# Altium footprint library Connector_Hirose_DF40.PcbLib: 70 footprints (part 3 of 5)
Each footprint in its own frame and in the unit in brackets; x right, y up, seen from the top. Pads: shape width x height; smd on the part's side, far side on the other; paste and mask are expansions set on the pad; w line width, h text height; cw(c..) or ccw(c..) is an arc to the next point about the centre after c.
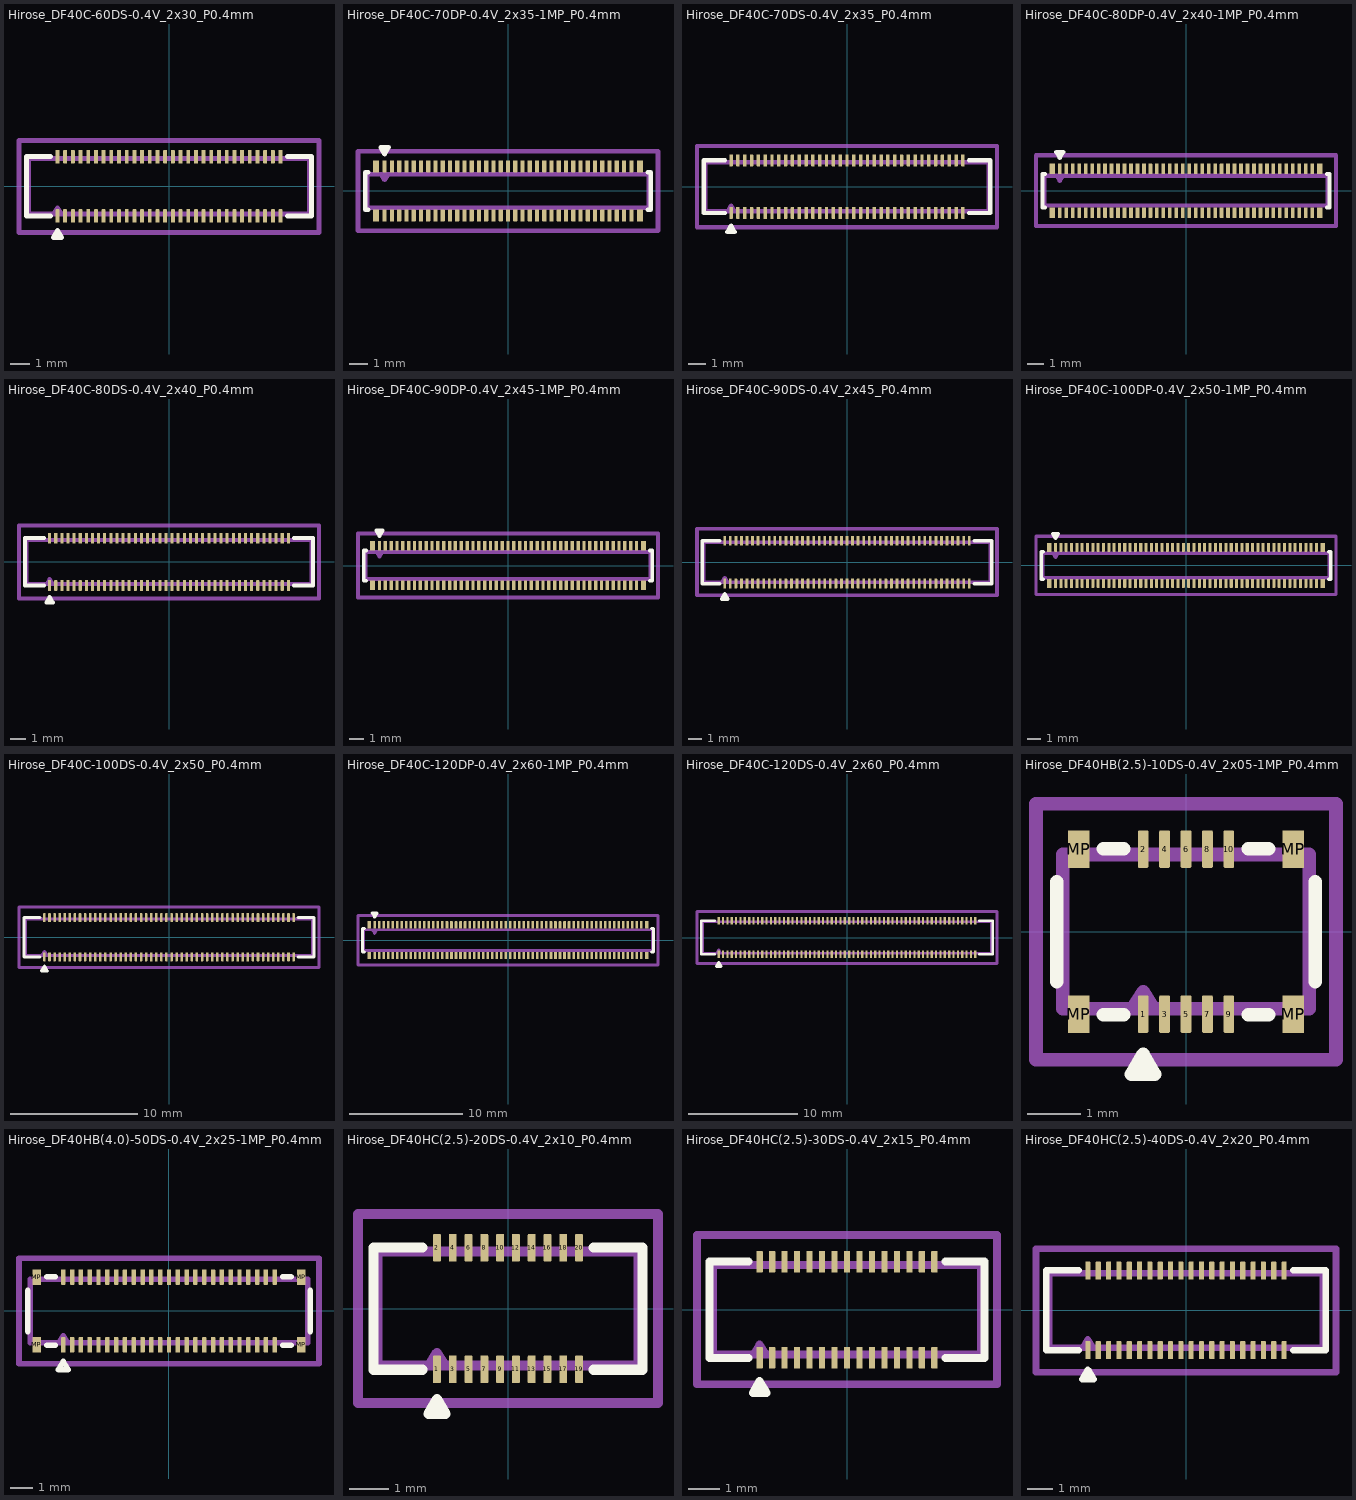
[diagram p2: the footprints below, top view; thin cyan lines are the x and y axes]

## Hirose_DF40C-60DS-0.4V_2x30_P0.4mm [mm]
pads (60):
  rrect25% 0.2x0.7 smd: 1(-5.8,-1.54) 2(-5.8,1.54) 3(-5.4,-1.54) 4(-5.4,1.54) 5(-5,-1.54) 6(-5,1.54) 7(-4.6,-1.54) 8(-4.6,1.54) 9(-4.2,-1.54) 10(-4.2,1.54) 11(-3.8,-1.54) 12(-3.8,1.54) 13(-3.4,-1.54) 14(-3.4,1.54) 15(-3,-1.54) 16(-3,1.54) 17(-2.6,-1.54) 18(-2.6,1.54) 19(-2.2,-1.54) 20(-2.2,1.54) 21(-1.8,-1.54) 22(-1.8,1.54) 23(-1.4,-1.54) 24(-1.4,1.54) 25(-1,-1.54) 26(-1,1.54) 27(-0.6,-1.54) 28(-0.6,1.54) 29(-0.2,-1.54) 30(-0.2,1.54) 31(0.2,-1.54) 32(0.2,1.54) 33(0.6,-1.54) 34(0.6,1.54) 35(1,-1.54) 36(1,1.54) 37(1.4,-1.54) 38(1.4,1.54) 39(1.8,-1.54) 40(1.8,1.54) 41(2.2,-1.54) 42(2.2,1.54) 43(2.6,-1.54) 44(2.6,1.54) 45(3,-1.54) 46(3,1.54) 47(3.4,-1.54) 48(3.4,1.54) 49(3.8,-1.54) 50(3.8,1.54) 51(4.2,-1.54) 52(4.2,1.54) 53(4.6,-1.54) 54(4.6,1.54) 55(5,-1.54) 56(5,1.54) 57(5.4,-1.54) 58(5.4,1.54) 59(5.8,-1.54) 60(5.8,1.54)
F.SilkS:
  lines w0.254: -6.16,-1.55 -7.41,-1.55 -7.41,1.55 -6.16,1.55 ; 6.16,-1.55 7.41,-1.55 7.41,1.55 6.16,1.55 ; -6.017,-2.665 -5.583,-2.665 -5.8,-2.29 -6.017,-2.665
Top Assembly:
  lines w0.254: -6,-1.44 -5.8,-1.12 -5.6,-1.44 ; -7.3,-1.44 7.3,-1.44 7.3,1.44 -7.3,1.44 -7.3,-1.44
  text "'.Designator'" at -4.047,-0.84 h1
Top Courtyard:
  lines w0.254: -7.8,-2.39 7.8,-2.39 7.8,2.39 -7.8,2.39 -7.8,-2.39
Top Designator:
  text ".Designator" at -7.618,-0.645 h1.52

## Hirose_DF40C-70DP-0.4V_2x35-1MP_P0.4mm [mm]
pads (74):
  rrect25% 0.23x0.66 smd: 1(-6.8,1.355) 2(-6.8,-1.355) 3(-6.4,1.355) 4(-6.4,-1.355) 5(-6,1.355) 6(-6,-1.355) 7(-5.6,1.355) 8(-5.6,-1.355) 9(-5.2,1.355) 10(-5.2,-1.355) 11(-4.8,1.355) 12(-4.8,-1.355) 13(-4.4,1.355) 14(-4.4,-1.355) 15(-4,1.355) 16(-4,-1.355) 17(-3.6,1.355) 18(-3.6,-1.355) 19(-3.2,1.355) 20(-3.2,-1.355) 21(-2.8,1.355) 22(-2.8,-1.355) 23(-2.4,1.355) 24(-2.4,-1.355) 25(-2,1.355) 26(-2,-1.355) 27(-1.6,1.355) 28(-1.6,-1.355) 29(-1.2,1.355) 30(-1.2,-1.355) 31(-0.8,1.355) 32(-0.8,-1.355) 33(-0.4,1.355) 34(-0.4,-1.355) 35(0,1.355) 36(0,-1.355) 37(0.4,1.355) 38(0.4,-1.355) 39(0.8,1.355) 40(0.8,-1.355) 41(1.2,1.355) 42(1.2,-1.355) 43(1.6,1.355) 44(1.6,-1.355) 45(2,1.355) 46(2,-1.355) 47(2.4,1.355) 48(2.4,-1.355) 49(2.8,1.355) 50(2.8,-1.355) 51(3.2,1.355) 52(3.2,-1.355) 53(3.6,1.355) 54(3.6,-1.355) 55(4,1.355) 56(4,-1.355) 57(4.4,1.355) 58(4.4,-1.355) 59(4.8,1.355) 60(4.8,-1.355) 61(5.2,1.355) 62(5.2,-1.355) 63(5.6,1.355) 64(5.6,-1.355) 65(6,1.355) 66(6,-1.355) 67(6.4,1.355) 68(6.4,-1.355) 69(6.8,1.355) 70(6.8,-1.355)
  rect 0.35x0.66 smd: MP(-7.275,-1.355) MP(-7.275,1.355) MP(7.275,-1.355) MP(7.275,1.355)
F.SilkS:
  lines w0.254: -7.71,-1.035 -7.87,-1.035 -7.87,1.035 -7.71,1.035 ; 7.71,-1.035 7.87,-1.035 7.87,1.035 7.71,1.035 ; -7.017,2.4 -6.583,2.4 -6.8,2.025 -7.017,2.4
Top Assembly:
  lines w0.254: -7,0.925 -6.8,0.605 -6.6,0.925 ; -7.76,-0.925 7.76,-0.925 7.76,0.925 -7.76,0.925 -7.76,-0.925
  text "'.Designator'" at -4.047,-0.84 h1
Top Courtyard:
  lines w0.254: -8.27,-2.19 8.27,-2.19 8.27,2.19 -8.27,2.19 -8.27,-2.19
Top Designator:
  text ".Designator" at -7.618,-0.403 h1.52

## Hirose_DF40C-70DS-0.4V_2x35_P0.4mm [mm]
pads (70):
  rrect25% 0.2x0.7 smd: 1(-6.8,-1.54) 2(-6.8,1.54) 3(-6.4,-1.54) 4(-6.4,1.54) 5(-6,-1.54) 6(-6,1.54) 7(-5.6,-1.54) 8(-5.6,1.54) 9(-5.2,-1.54) 10(-5.2,1.54) 11(-4.8,-1.54) 12(-4.8,1.54) 13(-4.4,-1.54) 14(-4.4,1.54) 15(-4,-1.54) 16(-4,1.54) 17(-3.6,-1.54) 18(-3.6,1.54) 19(-3.2,-1.54) 20(-3.2,1.54) 21(-2.8,-1.54) 22(-2.8,1.54) 23(-2.4,-1.54) 24(-2.4,1.54) 25(-2,-1.54) 26(-2,1.54) 27(-1.6,-1.54) 28(-1.6,1.54) 29(-1.2,-1.54) 30(-1.2,1.54) 31(-0.8,-1.54) 32(-0.8,1.54) 33(-0.4,-1.54) 34(-0.4,1.54) 35(0,-1.54) 36(0,1.54) 37(0.4,-1.54) 38(0.4,1.54) 39(0.8,-1.54) 40(0.8,1.54) 41(1.2,-1.54) 42(1.2,1.54) 43(1.6,-1.54) 44(1.6,1.54) 45(2,-1.54) 46(2,1.54) 47(2.4,-1.54) 48(2.4,1.54) 49(2.8,-1.54) 50(2.8,1.54) 51(3.2,-1.54) 52(3.2,1.54) 53(3.6,-1.54) 54(3.6,1.54) 55(4,-1.54) 56(4,1.54) 57(4.4,-1.54) 58(4.4,1.54) 59(4.8,-1.54) 60(4.8,1.54) 61(5.2,-1.54) 62(5.2,1.54) 63(5.6,-1.54) 64(5.6,1.54) 65(6,-1.54) 66(6,1.54) 67(6.4,-1.54) 68(6.4,1.54) 69(6.8,-1.54) 70(6.8,1.54)
F.SilkS:
  lines w0.254: -7.16,-1.55 -8.41,-1.55 -8.41,1.55 -7.16,1.55 ; 7.16,-1.55 8.41,-1.55 8.41,1.55 7.16,1.55 ; -7.017,-2.665 -6.583,-2.665 -6.8,-2.29 -7.017,-2.665
Top Assembly:
  lines w0.254: -7,-1.44 -6.8,-1.12 -6.6,-1.44 ; -8.3,-1.44 8.3,-1.44 8.3,1.44 -8.3,1.44 -8.3,-1.44
  text "'.Designator'" at -4.047,-0.84 h1
Top Courtyard:
  lines w0.254: -8.8,-2.39 8.8,-2.39 8.8,2.39 -8.8,2.39 -8.8,-2.39
Top Designator:
  text ".Designator" at -7.618,-0.645 h1.52

## Hirose_DF40C-80DP-0.4V_2x40-1MP_P0.4mm [mm]
pads (84):
  rrect25% 0.23x0.66 smd: 1(-7.8,1.355) 2(-7.8,-1.355) 3(-7.4,1.355) 4(-7.4,-1.355) 5(-7,1.355) 6(-7,-1.355) 7(-6.6,1.355) 8(-6.6,-1.355) 9(-6.2,1.355) 10(-6.2,-1.355) 11(-5.8,1.355) 12(-5.8,-1.355) 13(-5.4,1.355) 14(-5.4,-1.355) 15(-5,1.355) 16(-5,-1.355) 17(-4.6,1.355) 18(-4.6,-1.355) 19(-4.2,1.355) 20(-4.2,-1.355) 21(-3.8,1.355) 22(-3.8,-1.355) 23(-3.4,1.355) 24(-3.4,-1.355) 25(-3,1.355) 26(-3,-1.355) 27(-2.6,1.355) 28(-2.6,-1.355) 29(-2.2,1.355) 30(-2.2,-1.355) 31(-1.8,1.355) 32(-1.8,-1.355) 33(-1.4,1.355) 34(-1.4,-1.355) 35(-1,1.355) 36(-1,-1.355) 37(-0.6,1.355) 38(-0.6,-1.355) 39(-0.2,1.355) 40(-0.2,-1.355) 41(0.2,1.355) 42(0.2,-1.355) 43(0.6,1.355) 44(0.6,-1.355) 45(1,1.355) 46(1,-1.355) 47(1.4,1.355) 48(1.4,-1.355) 49(1.8,1.355) 50(1.8,-1.355) 51(2.2,1.355) 52(2.2,-1.355) 53(2.6,1.355) 54(2.6,-1.355) 55(3,1.355) 56(3,-1.355) 57(3.4,1.355) 58(3.4,-1.355) 59(3.8,1.355) 60(3.8,-1.355) 61(4.2,1.355) 62(4.2,-1.355) 63(4.6,1.355) 64(4.6,-1.355) 65(5,1.355) 66(5,-1.355) 67(5.4,1.355) 68(5.4,-1.355) 69(5.8,1.355) 70(5.8,-1.355) 71(6.2,1.355) 72(6.2,-1.355) 73(6.6,1.355) 74(6.6,-1.355) 75(7,1.355) 76(7,-1.355) 77(7.4,1.355) 78(7.4,-1.355) 79(7.8,1.355) 80(7.8,-1.355)
  rect 0.35x0.66 smd: MP(-8.275,-1.355) MP(-8.275,1.355) MP(8.275,-1.355) MP(8.275,1.355)
F.SilkS:
  lines w0.254: -8.71,-1.035 -8.87,-1.035 -8.87,1.035 -8.71,1.035 ; 8.71,-1.035 8.87,-1.035 8.87,1.035 8.71,1.035 ; -8.017,2.4 -7.583,2.4 -7.8,2.025 -8.017,2.4
Top Assembly:
  lines w0.254: -8,0.925 -7.8,0.605 -7.6,0.925 ; -8.76,-0.925 8.76,-0.925 8.76,0.925 -8.76,0.925 -8.76,-0.925
  text "'.Designator'" at -4.047,-0.84 h1
Top Courtyard:
  lines w0.254: -9.27,-2.19 9.27,-2.19 9.27,2.19 -9.27,2.19 -9.27,-2.19
Top Designator:
  text ".Designator" at -7.618,-0.403 h1.52

## Hirose_DF40C-80DS-0.4V_2x40_P0.4mm [mm]
pads (80):
  rrect25% 0.2x0.7 smd: 1(-7.8,-1.54) 2(-7.8,1.54) 3(-7.4,-1.54) 4(-7.4,1.54) 5(-7,-1.54) 6(-7,1.54) 7(-6.6,-1.54) 8(-6.6,1.54) 9(-6.2,-1.54) 10(-6.2,1.54) 11(-5.8,-1.54) 12(-5.8,1.54) 13(-5.4,-1.54) 14(-5.4,1.54) 15(-5,-1.54) 16(-5,1.54) 17(-4.6,-1.54) 18(-4.6,1.54) 19(-4.2,-1.54) 20(-4.2,1.54) 21(-3.8,-1.54) 22(-3.8,1.54) 23(-3.4,-1.54) 24(-3.4,1.54) 25(-3,-1.54) 26(-3,1.54) 27(-2.6,-1.54) 28(-2.6,1.54) 29(-2.2,-1.54) 30(-2.2,1.54) 31(-1.8,-1.54) 32(-1.8,1.54) 33(-1.4,-1.54) 34(-1.4,1.54) 35(-1,-1.54) 36(-1,1.54) 37(-0.6,-1.54) 38(-0.6,1.54) 39(-0.2,-1.54) 40(-0.2,1.54) 41(0.2,-1.54) 42(0.2,1.54) 43(0.6,-1.54) 44(0.6,1.54) 45(1,-1.54) 46(1,1.54) 47(1.4,-1.54) 48(1.4,1.54) 49(1.8,-1.54) 50(1.8,1.54) 51(2.2,-1.54) 52(2.2,1.54) 53(2.6,-1.54) 54(2.6,1.54) 55(3,-1.54) 56(3,1.54) 57(3.4,-1.54) 58(3.4,1.54) 59(3.8,-1.54) 60(3.8,1.54) 61(4.2,-1.54) 62(4.2,1.54) 63(4.6,-1.54) 64(4.6,1.54) 65(5,-1.54) 66(5,1.54) 67(5.4,-1.54) 68(5.4,1.54) 69(5.8,-1.54) 70(5.8,1.54) 71(6.2,-1.54) 72(6.2,1.54) 73(6.6,-1.54) 74(6.6,1.54) 75(7,-1.54) 76(7,1.54) 77(7.4,-1.54) 78(7.4,1.54) 79(7.8,-1.54) 80(7.8,1.54)
F.SilkS:
  lines w0.254: -8.16,-1.55 -9.41,-1.55 -9.41,1.55 -8.16,1.55 ; 8.16,-1.55 9.41,-1.55 9.41,1.55 8.16,1.55 ; -8.017,-2.665 -7.583,-2.665 -7.8,-2.29 -8.017,-2.665
Top Assembly:
  lines w0.254: -8,-1.44 -7.8,-1.12 -7.6,-1.44 ; -9.3,-1.44 9.3,-1.44 9.3,1.44 -9.3,1.44 -9.3,-1.44
  text "'.Designator'" at -4.047,-0.84 h1
Top Courtyard:
  lines w0.254: -9.8,-2.39 9.8,-2.39 9.8,2.39 -9.8,2.39 -9.8,-2.39
Top Designator:
  text ".Designator" at -7.618,-0.645 h1.52

## Hirose_DF40C-90DP-0.4V_2x45-1MP_P0.4mm [mm]
pads (94):
  rrect25% 0.23x0.66 smd: 1(-8.8,1.355) 2(-8.8,-1.355) 3(-8.4,1.355) 4(-8.4,-1.355) 5(-8,1.355) 6(-8,-1.355) 7(-7.6,1.355) 8(-7.6,-1.355) 9(-7.2,1.355) 10(-7.2,-1.355) 11(-6.8,1.355) 12(-6.8,-1.355) 13(-6.4,1.355) 14(-6.4,-1.355) 15(-6,1.355) 16(-6,-1.355) 17(-5.6,1.355) 18(-5.6,-1.355) 19(-5.2,1.355) 20(-5.2,-1.355) 21(-4.8,1.355) 22(-4.8,-1.355) 23(-4.4,1.355) 24(-4.4,-1.355) 25(-4,1.355) 26(-4,-1.355) 27(-3.6,1.355) 28(-3.6,-1.355) 29(-3.2,1.355) 30(-3.2,-1.355) 31(-2.8,1.355) 32(-2.8,-1.355) 33(-2.4,1.355) 34(-2.4,-1.355) 35(-2,1.355) 36(-2,-1.355) 37(-1.6,1.355) 38(-1.6,-1.355) 39(-1.2,1.355) 40(-1.2,-1.355) 41(-0.8,1.355) 42(-0.8,-1.355) 43(-0.4,1.355) 44(-0.4,-1.355) 45(0,1.355) 46(0,-1.355) 47(0.4,1.355) 48(0.4,-1.355) 49(0.8,1.355) 50(0.8,-1.355) 51(1.2,1.355) 52(1.2,-1.355) 53(1.6,1.355) 54(1.6,-1.355) 55(2,1.355) 56(2,-1.355) 57(2.4,1.355) 58(2.4,-1.355) 59(2.8,1.355) 60(2.8,-1.355) 61(3.2,1.355) 62(3.2,-1.355) 63(3.6,1.355) 64(3.6,-1.355) 65(4,1.355) 66(4,-1.355) 67(4.4,1.355) 68(4.4,-1.355) 69(4.8,1.355) 70(4.8,-1.355) 71(5.2,1.355) 72(5.2,-1.355) 73(5.6,1.355) 74(5.6,-1.355) 75(6,1.355) 76(6,-1.355) 77(6.4,1.355) 78(6.4,-1.355) 79(6.8,1.355) 80(6.8,-1.355) 81(7.2,1.355) 82(7.2,-1.355) 83(7.6,1.355) 84(7.6,-1.355) 85(8,1.355) 86(8,-1.355) 87(8.4,1.355) 88(8.4,-1.355) 89(8.8,1.355) 90(8.8,-1.355)
  rect 0.35x0.66 smd: MP(-9.275,-1.355) MP(-9.275,1.355) MP(9.275,-1.355) MP(9.275,1.355)
F.SilkS:
  lines w0.254: -9.71,-1.035 -9.87,-1.035 -9.87,1.035 -9.71,1.035 ; 9.71,-1.035 9.87,-1.035 9.87,1.035 9.71,1.035 ; -9.017,2.4 -8.583,2.4 -8.8,2.025 -9.017,2.4
Top Assembly:
  lines w0.254: -9,0.925 -8.8,0.605 -8.6,0.925 ; -9.76,-0.925 9.76,-0.925 9.76,0.925 -9.76,0.925 -9.76,-0.925
  text "'.Designator'" at -4.047,-0.84 h1
Top Courtyard:
  lines w0.254: -10.27,-2.19 10.27,-2.19 10.27,2.19 -10.27,2.19 -10.27,-2.19
Top Designator:
  text ".Designator" at -7.618,-0.403 h1.52

## Hirose_DF40C-90DS-0.4V_2x45_P0.4mm [mm]
pads (90):
  rrect25% 0.2x0.7 smd: 1(-8.8,-1.54) 2(-8.8,1.54) 3(-8.4,-1.54) 4(-8.4,1.54) 5(-8,-1.54) 6(-8,1.54) 7(-7.6,-1.54) 8(-7.6,1.54) 9(-7.2,-1.54) 10(-7.2,1.54) 11(-6.8,-1.54) 12(-6.8,1.54) 13(-6.4,-1.54) 14(-6.4,1.54) 15(-6,-1.54) 16(-6,1.54) 17(-5.6,-1.54) 18(-5.6,1.54) 19(-5.2,-1.54) 20(-5.2,1.54) 21(-4.8,-1.54) 22(-4.8,1.54) 23(-4.4,-1.54) 24(-4.4,1.54) 25(-4,-1.54) 26(-4,1.54) 27(-3.6,-1.54) 28(-3.6,1.54) 29(-3.2,-1.54) 30(-3.2,1.54) 31(-2.8,-1.54) 32(-2.8,1.54) 33(-2.4,-1.54) 34(-2.4,1.54) 35(-2,-1.54) 36(-2,1.54) 37(-1.6,-1.54) 38(-1.6,1.54) 39(-1.2,-1.54) 40(-1.2,1.54) 41(-0.8,-1.54) 42(-0.8,1.54) 43(-0.4,-1.54) 44(-0.4,1.54) 45(0,-1.54) 46(0,1.54) 47(0.4,-1.54) 48(0.4,1.54) 49(0.8,-1.54) 50(0.8,1.54) 51(1.2,-1.54) 52(1.2,1.54) 53(1.6,-1.54) 54(1.6,1.54) 55(2,-1.54) 56(2,1.54) 57(2.4,-1.54) 58(2.4,1.54) 59(2.8,-1.54) 60(2.8,1.54) 61(3.2,-1.54) 62(3.2,1.54) 63(3.6,-1.54) 64(3.6,1.54) 65(4,-1.54) 66(4,1.54) 67(4.4,-1.54) 68(4.4,1.54) 69(4.8,-1.54) 70(4.8,1.54) 71(5.2,-1.54) 72(5.2,1.54) 73(5.6,-1.54) 74(5.6,1.54) 75(6,-1.54) 76(6,1.54) 77(6.4,-1.54) 78(6.4,1.54) 79(6.8,-1.54) 80(6.8,1.54) 81(7.2,-1.54) 82(7.2,1.54) 83(7.6,-1.54) 84(7.6,1.54) 85(8,-1.54) 86(8,1.54) 87(8.4,-1.54) 88(8.4,1.54) 89(8.8,-1.54) 90(8.8,1.54)
F.SilkS:
  lines w0.254: -9.16,-1.55 -10.41,-1.55 -10.41,1.55 -9.16,1.55 ; 9.16,-1.55 10.41,-1.55 10.41,1.55 9.16,1.55 ; -9.017,-2.665 -8.583,-2.665 -8.8,-2.29 -9.017,-2.665
Top Assembly:
  lines w0.254: -9,-1.44 -8.8,-1.12 -8.6,-1.44 ; -10.3,-1.44 10.3,-1.44 10.3,1.44 -10.3,1.44 -10.3,-1.44
  text "'.Designator'" at -4.047,-0.84 h1
Top Courtyard:
  lines w0.254: -10.8,-2.39 10.8,-2.39 10.8,2.39 -10.8,2.39 -10.8,-2.39
Top Designator:
  text ".Designator" at -7.618,-0.645 h1.52

## Hirose_DF40C-100DP-0.4V_2x50-1MP_P0.4mm [mm]
pads (104):
  rrect25% 0.23x0.66 smd: 1(-9.8,1.355) 2(-9.8,-1.355) 3(-9.4,1.355) 4(-9.4,-1.355) 5(-9,1.355) 6(-9,-1.355) 7(-8.6,1.355) 8(-8.6,-1.355) 9(-8.2,1.355) 10(-8.2,-1.355) 11(-7.8,1.355) 12(-7.8,-1.355) 13(-7.4,1.355) 14(-7.4,-1.355) 15(-7,1.355) 16(-7,-1.355) 17(-6.6,1.355) 18(-6.6,-1.355) 19(-6.2,1.355) 20(-6.2,-1.355) 21(-5.8,1.355) 22(-5.8,-1.355) 23(-5.4,1.355) 24(-5.4,-1.355) 25(-5,1.355) 26(-5,-1.355) 27(-4.6,1.355) 28(-4.6,-1.355) 29(-4.2,1.355) 30(-4.2,-1.355) 31(-3.8,1.355) 32(-3.8,-1.355) 33(-3.4,1.355) 34(-3.4,-1.355) 35(-3,1.355) 36(-3,-1.355) 37(-2.6,1.355) 38(-2.6,-1.355) 39(-2.2,1.355) 40(-2.2,-1.355) 41(-1.8,1.355) 42(-1.8,-1.355) 43(-1.4,1.355) 44(-1.4,-1.355) 45(-1,1.355) 46(-1,-1.355) 47(-0.6,1.355) 48(-0.6,-1.355) 49(-0.2,1.355) 50(-0.2,-1.355) 51(0.2,1.355) 52(0.2,-1.355) 53(0.6,1.355) 54(0.6,-1.355) 55(1,1.355) 56(1,-1.355) 57(1.4,1.355) 58(1.4,-1.355) 59(1.8,1.355) 60(1.8,-1.355) 61(2.2,1.355) 62(2.2,-1.355) 63(2.6,1.355) 64(2.6,-1.355) 65(3,1.355) 66(3,-1.355) 67(3.4,1.355) 68(3.4,-1.355) 69(3.8,1.355) 70(3.8,-1.355) 71(4.2,1.355) 72(4.2,-1.355) 73(4.6,1.355) 74(4.6,-1.355) 75(5,1.355) 76(5,-1.355) 77(5.4,1.355) 78(5.4,-1.355) 79(5.8,1.355) 80(5.8,-1.355) 81(6.2,1.355) 82(6.2,-1.355) 83(6.6,1.355) 84(6.6,-1.355) 85(7,1.355) 86(7,-1.355) 87(7.4,1.355) 88(7.4,-1.355) 89(7.8,1.355) 90(7.8,-1.355) 91(8.2,1.355) 92(8.2,-1.355) 93(8.6,1.355) 94(8.6,-1.355) 95(9,1.355) 96(9,-1.355) 97(9.4,1.355) 98(9.4,-1.355) 99(9.8,1.355) 100(9.8,-1.355)
  rect 0.35x0.66 smd: MP(-10.275,-1.355) MP(-10.275,1.355) MP(10.275,-1.355) MP(10.275,1.355)
F.SilkS:
  lines w0.254: -10.71,-1.035 -10.87,-1.035 -10.87,1.035 -10.71,1.035 ; 10.71,-1.035 10.87,-1.035 10.87,1.035 10.71,1.035 ; -10.017,2.4 -9.583,2.4 -9.8,2.025 -10.017,2.4
Top Assembly:
  lines w0.254: -10,0.925 -9.8,0.605 -9.6,0.925 ; -10.76,-0.925 10.76,-0.925 10.76,0.925 -10.76,0.925 -10.76,-0.925
  text "'.Designator'" at -4.047,-0.84 h1
Top Courtyard:
  lines w0.254: -11.27,-2.19 11.27,-2.19 11.27,2.19 -11.27,2.19 -11.27,-2.19
Top Designator:
  text ".Designator" at -7.618,-0.403 h1.52

## Hirose_DF40C-100DS-0.4V_2x50_P0.4mm [mm]
pads (100):
  rrect25% 0.2x0.7 smd: 1(-9.8,-1.54) 2(-9.8,1.54) 3(-9.4,-1.54) 4(-9.4,1.54) 5(-9,-1.54) 6(-9,1.54) 7(-8.6,-1.54) 8(-8.6,1.54) 9(-8.2,-1.54) 10(-8.2,1.54) 11(-7.8,-1.54) 12(-7.8,1.54) 13(-7.4,-1.54) 14(-7.4,1.54) 15(-7,-1.54) 16(-7,1.54) 17(-6.6,-1.54) 18(-6.6,1.54) 19(-6.2,-1.54) 20(-6.2,1.54) 21(-5.8,-1.54) 22(-5.8,1.54) 23(-5.4,-1.54) 24(-5.4,1.54) 25(-5,-1.54) 26(-5,1.54) 27(-4.6,-1.54) 28(-4.6,1.54) 29(-4.2,-1.54) 30(-4.2,1.54) 31(-3.8,-1.54) 32(-3.8,1.54) 33(-3.4,-1.54) 34(-3.4,1.54) 35(-3,-1.54) 36(-3,1.54) 37(-2.6,-1.54) 38(-2.6,1.54) 39(-2.2,-1.54) 40(-2.2,1.54) 41(-1.8,-1.54) 42(-1.8,1.54) 43(-1.4,-1.54) 44(-1.4,1.54) 45(-1,-1.54) 46(-1,1.54) 47(-0.6,-1.54) 48(-0.6,1.54) 49(-0.2,-1.54) 50(-0.2,1.54) 51(0.2,-1.54) 52(0.2,1.54) 53(0.6,-1.54) 54(0.6,1.54) 55(1,-1.54) 56(1,1.54) 57(1.4,-1.54) 58(1.4,1.54) 59(1.8,-1.54) 60(1.8,1.54) 61(2.2,-1.54) 62(2.2,1.54) 63(2.6,-1.54) 64(2.6,1.54) 65(3,-1.54) 66(3,1.54) 67(3.4,-1.54) 68(3.4,1.54) 69(3.8,-1.54) 70(3.8,1.54) 71(4.2,-1.54) 72(4.2,1.54) 73(4.6,-1.54) 74(4.6,1.54) 75(5,-1.54) 76(5,1.54) 77(5.4,-1.54) 78(5.4,1.54) 79(5.8,-1.54) 80(5.8,1.54) 81(6.2,-1.54) 82(6.2,1.54) 83(6.6,-1.54) 84(6.6,1.54) 85(7,-1.54) 86(7,1.54) 87(7.4,-1.54) 88(7.4,1.54) 89(7.8,-1.54) 90(7.8,1.54) 91(8.2,-1.54) 92(8.2,1.54) 93(8.6,-1.54) 94(8.6,1.54) 95(9,-1.54) 96(9,1.54) 97(9.4,-1.54) 98(9.4,1.54) 99(9.8,-1.54) 100(9.8,1.54)
F.SilkS:
  lines w0.254: -10.16,-1.55 -11.41,-1.55 -11.41,1.55 -10.16,1.55 ; 10.16,-1.55 11.41,-1.55 11.41,1.55 10.16,1.55 ; -10.017,-2.665 -9.583,-2.665 -9.8,-2.29 -10.017,-2.665
Top Assembly:
  lines w0.254: -10,-1.44 -9.8,-1.12 -9.6,-1.44 ; -11.3,-1.44 11.3,-1.44 11.3,1.44 -11.3,1.44 -11.3,-1.44
  text "'.Designator'" at -4.047,-0.84 h1
Top Courtyard:
  lines w0.254: -11.8,-2.39 11.8,-2.39 11.8,2.39 -11.8,2.39 -11.8,-2.39
Top Designator:
  text ".Designator" at -7.618,-0.645 h1.52

## Hirose_DF40C-120DP-0.4V_2x60-1MP_P0.4mm [mm]
pads (124):
  rrect25% 0.23x0.66 smd: 1(-11.8,1.355) 2(-11.8,-1.355) 3(-11.4,1.355) 4(-11.4,-1.355) 5(-11,1.355) 6(-11,-1.355) 7(-10.6,1.355) 8(-10.6,-1.355) 9(-10.2,1.355) 10(-10.2,-1.355) 11(-9.8,1.355) 12(-9.8,-1.355) 13(-9.4,1.355) 14(-9.4,-1.355) 15(-9,1.355) 16(-9,-1.355) 17(-8.6,1.355) 18(-8.6,-1.355) 19(-8.2,1.355) 20(-8.2,-1.355) 21(-7.8,1.355) 22(-7.8,-1.355) 23(-7.4,1.355) 24(-7.4,-1.355) 25(-7,1.355) 26(-7,-1.355) 27(-6.6,1.355) 28(-6.6,-1.355) 29(-6.2,1.355) 30(-6.2,-1.355) 31(-5.8,1.355) 32(-5.8,-1.355) 33(-5.4,1.355) 34(-5.4,-1.355) 35(-5,1.355) 36(-5,-1.355) 37(-4.6,1.355) 38(-4.6,-1.355) 39(-4.2,1.355) 40(-4.2,-1.355) 41(-3.8,1.355) 42(-3.8,-1.355) 43(-3.4,1.355) 44(-3.4,-1.355) 45(-3,1.355) 46(-3,-1.355) 47(-2.6,1.355) 48(-2.6,-1.355) 49(-2.2,1.355) 50(-2.2,-1.355) 51(-1.8,1.355) 52(-1.8,-1.355) 53(-1.4,1.355) 54(-1.4,-1.355) 55(-1,1.355) 56(-1,-1.355) 57(-0.6,1.355) 58(-0.6,-1.355) 59(-0.2,1.355) 60(-0.2,-1.355) 61(0.2,1.355) 62(0.2,-1.355) 63(0.6,1.355) 64(0.6,-1.355) 65(1,1.355) 66(1,-1.355) 67(1.4,1.355) 68(1.4,-1.355) 69(1.8,1.355) 70(1.8,-1.355) 71(2.2,1.355) 72(2.2,-1.355) 73(2.6,1.355) 74(2.6,-1.355) 75(3,1.355) 76(3,-1.355) 77(3.4,1.355) 78(3.4,-1.355) 79(3.8,1.355) 80(3.8,-1.355) 81(4.2,1.355) 82(4.2,-1.355) 83(4.6,1.355) 84(4.6,-1.355) 85(5,1.355) 86(5,-1.355) 87(5.4,1.355) 88(5.4,-1.355) 89(5.8,1.355) 90(5.8,-1.355) 91(6.2,1.355) 92(6.2,-1.355) 93(6.6,1.355) 94(6.6,-1.355) 95(7,1.355) 96(7,-1.355) 97(7.4,1.355) 98(7.4,-1.355) 99(7.8,1.355) 100(7.8,-1.355) 101(8.2,1.355) 102(8.2,-1.355) 103(8.6,1.355) 104(8.6,-1.355) 105(9,1.355) 106(9,-1.355) 107(9.4,1.355) 108(9.4,-1.355) 109(9.8,1.355) 110(9.8,-1.355) 111(10.2,1.355) 112(10.2,-1.355) 113(10.6,1.355) 114(10.6,-1.355) 115(11,1.355) 116(11,-1.355) 117(11.4,1.355) 118(11.4,-1.355) 119(11.8,1.355) 120(11.8,-1.355)
  rect 0.35x0.66 smd: MP(-12.275,-1.355) MP(-12.275,1.355) MP(12.275,-1.355) MP(12.275,1.355)
F.SilkS:
  lines w0.254: -12.71,-1.035 -12.87,-1.035 -12.87,1.035 -12.71,1.035 ; 12.71,-1.035 12.87,-1.035 12.87,1.035 12.71,1.035 ; -12.017,2.4 -11.583,2.4 -11.8,2.025 -12.017,2.4
Top Assembly:
  lines w0.254: -12,0.925 -11.8,0.605 -11.6,0.925 ; -12.76,-0.925 12.76,-0.925 12.76,0.925 -12.76,0.925 -12.76,-0.925
  text "'.Designator'" at -4.047,-0.84 h1
Top Courtyard:
  lines w0.254: -13.27,-2.19 13.27,-2.19 13.27,2.19 -13.27,2.19 -13.27,-2.19
Top Designator:
  text ".Designator" at -7.618,-0.403 h1.52

## Hirose_DF40C-120DS-0.4V_2x60_P0.4mm [mm]
pads (120):
  rrect25% 0.2x0.7 smd: 1(-11.8,-1.54) 2(-11.8,1.54) 3(-11.4,-1.54) 4(-11.4,1.54) 5(-11,-1.54) 6(-11,1.54) 7(-10.6,-1.54) 8(-10.6,1.54) 9(-10.2,-1.54) 10(-10.2,1.54) 11(-9.8,-1.54) 12(-9.8,1.54) 13(-9.4,-1.54) 14(-9.4,1.54) 15(-9,-1.54) 16(-9,1.54) 17(-8.6,-1.54) 18(-8.6,1.54) 19(-8.2,-1.54) 20(-8.2,1.54) 21(-7.8,-1.54) 22(-7.8,1.54) 23(-7.4,-1.54) 24(-7.4,1.54) 25(-7,-1.54) 26(-7,1.54) 27(-6.6,-1.54) 28(-6.6,1.54) 29(-6.2,-1.54) 30(-6.2,1.54) 31(-5.8,-1.54) 32(-5.8,1.54) 33(-5.4,-1.54) 34(-5.4,1.54) 35(-5,-1.54) 36(-5,1.54) 37(-4.6,-1.54) 38(-4.6,1.54) 39(-4.2,-1.54) 40(-4.2,1.54) 41(-3.8,-1.54) 42(-3.8,1.54) 43(-3.4,-1.54) 44(-3.4,1.54) 45(-3,-1.54) 46(-3,1.54) 47(-2.6,-1.54) 48(-2.6,1.54) 49(-2.2,-1.54) 50(-2.2,1.54) 51(-1.8,-1.54) 52(-1.8,1.54) 53(-1.4,-1.54) 54(-1.4,1.54) 55(-1,-1.54) 56(-1,1.54) 57(-0.6,-1.54) 58(-0.6,1.54) 59(-0.2,-1.54) 60(-0.2,1.54) 61(0.2,-1.54) 62(0.2,1.54) 63(0.6,-1.54) 64(0.6,1.54) 65(1,-1.54) 66(1,1.54) 67(1.4,-1.54) 68(1.4,1.54) 69(1.8,-1.54) 70(1.8,1.54) 71(2.2,-1.54) 72(2.2,1.54) 73(2.6,-1.54) 74(2.6,1.54) 75(3,-1.54) 76(3,1.54) 77(3.4,-1.54) 78(3.4,1.54) 79(3.8,-1.54) 80(3.8,1.54) 81(4.2,-1.54) 82(4.2,1.54) 83(4.6,-1.54) 84(4.6,1.54) 85(5,-1.54) 86(5,1.54) 87(5.4,-1.54) 88(5.4,1.54) 89(5.8,-1.54) 90(5.8,1.54) 91(6.2,-1.54) 92(6.2,1.54) 93(6.6,-1.54) 94(6.6,1.54) 95(7,-1.54) 96(7,1.54) 97(7.4,-1.54) 98(7.4,1.54) 99(7.8,-1.54) 100(7.8,1.54) 101(8.2,-1.54) 102(8.2,1.54) 103(8.6,-1.54) 104(8.6,1.54) 105(9,-1.54) 106(9,1.54) 107(9.4,-1.54) 108(9.4,1.54) 109(9.8,-1.54) 110(9.8,1.54) 111(10.2,-1.54) 112(10.2,1.54) 113(10.6,-1.54) 114(10.6,1.54) 115(11,-1.54) 116(11,1.54) 117(11.4,-1.54) 118(11.4,1.54) 119(11.8,-1.54) 120(11.8,1.54)
F.SilkS:
  lines w0.254: -12.16,-1.55 -13.41,-1.55 -13.41,1.55 -12.16,1.55 ; 12.16,-1.55 13.41,-1.55 13.41,1.55 12.16,1.55 ; -12.017,-2.665 -11.583,-2.665 -11.8,-2.29 -12.017,-2.665
Top Assembly:
  lines w0.254: -12,-1.44 -11.8,-1.12 -11.6,-1.44 ; -13.3,-1.44 13.3,-1.44 13.3,1.44 -13.3,1.44 -13.3,-1.44
  text "'.Designator'" at -4.047,-0.84 h1
Top Courtyard:
  lines w0.254: -13.8,-2.39 13.8,-2.39 13.8,2.39 -13.8,2.39 -13.8,-2.39
Top Designator:
  text ".Designator" at -7.618,-0.645 h1.52

## Hirose_DF40HB(2.5)-10DS-0.4V_2x05-1MP_P0.4mm [mm]
pads (14):
  rrect25% 0.2x0.7 smd: 1(-0.8,-1.54) 2(-0.8,1.54) 3(-0.4,-1.54) 4(-0.4,1.54) 5(0,-1.54) 6(0,1.54) 7(0.4,-1.54) 8(0.4,1.54) 9(0.8,-1.54) 10(0.8,1.54)
  rect 0.4x0.7 smd: MP(-2,-1.54) MP(-2,1.54) MP(2,-1.54) MP(2,1.54)
F.SilkS:
  lines w0.254: -2.41,-0.93 -2.41,0.93 ; -1.54,-1.55 -1.16,-1.55 ; -1.54,1.55 -1.16,1.55 ; 1.16,-1.55 1.54,-1.55 ; 1.16,1.55 1.54,1.55 ; 2.41,-0.93 2.41,0.93 ; -1.017,-2.665 -0.583,-2.665 -0.8,-2.29 -1.017,-2.665
Top Assembly:
  lines w0.254: -1,-1.44 -0.8,-1.12 -0.6,-1.44 ; -2.3,-1.44 2.3,-1.44 2.3,1.44 -2.3,1.44 -2.3,-1.44
  text "'.Designator'" at -4.047,-0.84 h1
Top Courtyard:
  lines w0.254: -2.8,-2.39 2.8,-2.39 2.8,2.39 -2.8,2.39 -2.8,-2.39
Top Designator:
  text ".Designator" at -7.768,-0.645 h1.52

## Hirose_DF40HB(4.0)-50DS-0.4V_2x25-1MP_P0.4mm [mm]
pads (54):
  rrect25% 0.2x0.7 smd: 1(-4.8,-1.54) 2(-4.8,1.54) 3(-4.4,-1.54) 4(-4.4,1.54) 5(-4,-1.54) 6(-4,1.54) 7(-3.6,-1.54) 8(-3.6,1.54) 9(-3.2,-1.54) 10(-3.2,1.54) 11(-2.8,-1.54) 12(-2.8,1.54) 13(-2.4,-1.54) 14(-2.4,1.54) 15(-2,-1.54) 16(-2,1.54) 17(-1.6,-1.54) 18(-1.6,1.54) 19(-1.2,-1.54) 20(-1.2,1.54) 21(-0.8,-1.54) 22(-0.8,1.54) 23(-0.4,-1.54) 24(-0.4,1.54) 25(0,-1.54) 26(0,1.54) 27(0.4,-1.54) 28(0.4,1.54) 29(0.8,-1.54) 30(0.8,1.54) 31(1.2,-1.54) 32(1.2,1.54) 33(1.6,-1.54) 34(1.6,1.54) 35(2,-1.54) 36(2,1.54) 37(2.4,-1.54) 38(2.4,1.54) 39(2.8,-1.54) 40(2.8,1.54) 41(3.2,-1.54) 42(3.2,1.54) 43(3.6,-1.54) 44(3.6,1.54) 45(4,-1.54) 46(4,1.54) 47(4.4,-1.54) 48(4.4,1.54) 49(4.8,-1.54) 50(4.8,1.54)
  rect 0.4x0.7 smd: MP(-6,-1.54) MP(-6,1.54) MP(6,-1.54) MP(6,1.54)
F.SilkS:
  lines w0.254: -6.41,-0.93 -6.41,0.93 ; -5.54,-1.55 -5.16,-1.55 ; -5.54,1.55 -5.16,1.55 ; 5.16,-1.55 5.54,-1.55 ; 5.16,1.55 5.54,1.55 ; 6.41,-0.93 6.41,0.93 ; -5.017,-2.665 -4.583,-2.665 -4.8,-2.29 -5.017,-2.665
Top Assembly:
  lines w0.254: -5,-1.44 -4.8,-1.12 -4.6,-1.44 ; -6.3,-1.44 6.3,-1.44 6.3,1.44 -6.3,1.44 -6.3,-1.44
  text "'.Designator'" at -4.047,-0.84 h1
Top Courtyard:
  lines w0.254: -6.81,-2.39 6.81,-2.39 6.81,2.39 -6.81,2.39 -6.81,-2.39
Top Designator:
  text ".Designator" at -7.618,-0.645 h1.52

## Hirose_DF40HC(2.5)-20DS-0.4V_2x10_P0.4mm [mm]
pads (20):
  rrect25% 0.2x0.7 smd: 1(-1.8,-1.54) 2(-1.8,1.54) 3(-1.4,-1.54) 4(-1.4,1.54) 5(-1,-1.54) 6(-1,1.54) 7(-0.6,-1.54) 8(-0.6,1.54) 9(-0.2,-1.54) 10(-0.2,1.54) 11(0.2,-1.54) 12(0.2,1.54) 13(0.6,-1.54) 14(0.6,1.54) 15(1,-1.54) 16(1,1.54) 17(1.4,-1.54) 18(1.4,1.54) 19(1.8,-1.54) 20(1.8,1.54)
F.SilkS:
  lines w0.254: -2.16,-1.55 -3.41,-1.55 -3.41,1.55 -2.16,1.55 ; 2.16,-1.55 3.41,-1.55 3.41,1.55 2.16,1.55 ; -2.017,-2.665 -1.583,-2.665 -1.8,-2.29 -2.017,-2.665
Top Assembly:
  lines w0.254: -2,-1.44 -1.8,-1.12 -1.6,-1.44 ; -3.3,-1.44 3.3,-1.44 3.3,1.44 -3.3,1.44 -3.3,-1.44
  text "'.Designator'" at -4.047,-0.84 h1
Top Courtyard:
  lines w0.254: -3.8,-2.39 3.8,-2.39 3.8,2.39 -3.8,2.39 -3.8,-2.39
Top Designator:
  text ".Designator" at -7.752,-0.645 h1.52

## Hirose_DF40HC(2.5)-30DS-0.4V_2x15_P0.4mm [mm]
pads (30):
  rrect25% 0.2x0.7 smd: 1(-2.8,-1.54) 2(-2.8,1.54) 3(-2.4,-1.54) 4(-2.4,1.54) 5(-2,-1.54) 6(-2,1.54) 7(-1.6,-1.54) 8(-1.6,1.54) 9(-1.2,-1.54) 10(-1.2,1.54) 11(-0.8,-1.54) 12(-0.8,1.54) 13(-0.4,-1.54) 14(-0.4,1.54) 15(0,-1.54) 16(0,1.54) 17(0.4,-1.54) 18(0.4,1.54) 19(0.8,-1.54) 20(0.8,1.54) 21(1.2,-1.54) 22(1.2,1.54) 23(1.6,-1.54) 24(1.6,1.54) 25(2,-1.54) 26(2,1.54) 27(2.4,-1.54) 28(2.4,1.54) 29(2.8,-1.54) 30(2.8,1.54)
F.SilkS:
  lines w0.254: -3.16,-1.55 -4.41,-1.55 -4.41,1.55 -3.16,1.55 ; 3.16,-1.55 4.41,-1.55 4.41,1.55 3.16,1.55 ; -3.017,-2.665 -2.583,-2.665 -2.8,-2.29 -3.017,-2.665
Top Assembly:
  lines w0.254: -3,-1.44 -2.8,-1.12 -2.6,-1.44 ; -4.3,-1.44 4.3,-1.44 4.3,1.44 -4.3,1.44 -4.3,-1.44
  text "'.Designator'" at -4.047,-0.84 h1
Top Courtyard:
  lines w0.254: -4.81,-2.39 4.81,-2.39 4.81,2.39 -4.81,2.39 -4.81,-2.39
Top Designator:
  text ".Designator" at -7.618,-0.645 h1.52

## Hirose_DF40HC(2.5)-40DS-0.4V_2x20_P0.4mm [mm]
pads (40):
  rrect25% 0.2x0.7 smd: 1(-3.8,-1.54) 2(-3.8,1.54) 3(-3.4,-1.54) 4(-3.4,1.54) 5(-3,-1.54) 6(-3,1.54) 7(-2.6,-1.54) 8(-2.6,1.54) 9(-2.2,-1.54) 10(-2.2,1.54) 11(-1.8,-1.54) 12(-1.8,1.54) 13(-1.4,-1.54) 14(-1.4,1.54) 15(-1,-1.54) 16(-1,1.54) 17(-0.6,-1.54) 18(-0.6,1.54) 19(-0.2,-1.54) 20(-0.2,1.54) 21(0.2,-1.54) 22(0.2,1.54) 23(0.6,-1.54) 24(0.6,1.54) 25(1,-1.54) 26(1,1.54) 27(1.4,-1.54) 28(1.4,1.54) 29(1.8,-1.54) 30(1.8,1.54) 31(2.2,-1.54) 32(2.2,1.54) 33(2.6,-1.54) 34(2.6,1.54) 35(3,-1.54) 36(3,1.54) 37(3.4,-1.54) 38(3.4,1.54) 39(3.8,-1.54) 40(3.8,1.54)
F.SilkS:
  lines w0.254: -4.16,-1.55 -5.41,-1.55 -5.41,1.55 -4.16,1.55 ; 4.16,-1.55 5.41,-1.55 5.41,1.55 4.16,1.55 ; -4.017,-2.665 -3.583,-2.665 -3.8,-2.29 -4.017,-2.665
Top Assembly:
  lines w0.254: -4,-1.44 -3.8,-1.12 -3.6,-1.44 ; -5.3,-1.44 5.3,-1.44 5.3,1.44 -5.3,1.44 -5.3,-1.44
  text "'.Designator'" at -4.047,-0.84 h1
Top Courtyard:
  lines w0.254: -5.81,-2.39 5.81,-2.39 5.81,2.39 -5.81,2.39 -5.81,-2.39
Top Designator:
  text ".Designator" at -7.618,-0.645 h1.52